# Altium footprint library regulatory.PcbLib: 2 footprints
Each footprint in its own frame and in the unit in brackets; x right, y up, seen from the top. Pads: shape width x height; smd on the part's side, far side on the other; paste and mask are expansions set on the pad; w line width, h text height; cw(c..) or ccw(c..) is an arc to the next point about the centre after c.
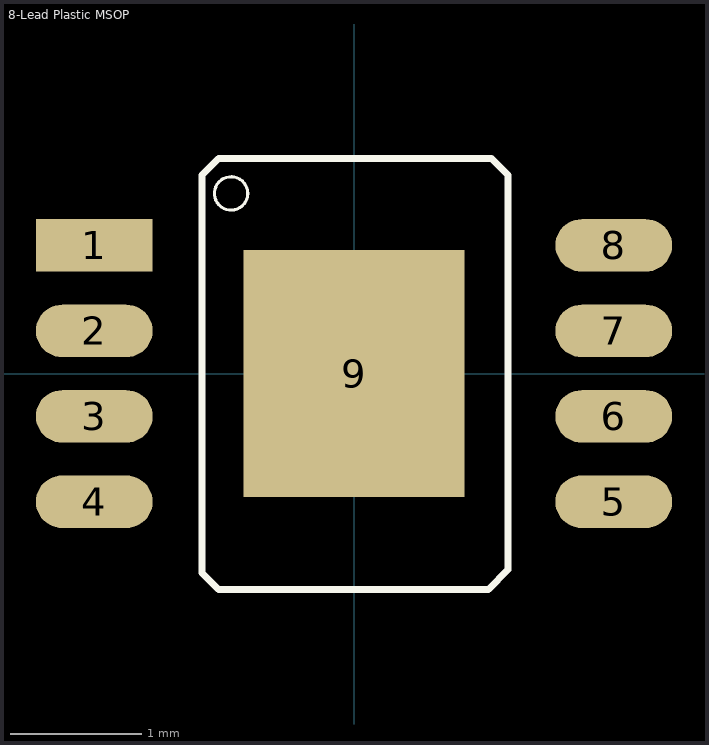
[diagram p0: the footprints below, top view; thin cyan lines are the x and y axes]

## 8-Lead Plastic MSOP [mm]
pads (9):
  rect 0.889x0.4 smd: 1(-1.975,0.975)
  oval 0.889x0.4 smd: 2(-1.975,0.325) 3(-1.975,-0.325) 4(-1.975,-0.975) 5(1.975,-0.975) 6(1.975,-0.325) 7(1.975,0.325) 8(1.975,0.975)
  rect 1.68x1.88 smd: 9(0,0)
Top Overlay:
  circle w0.024: c-0.935,1.37 r0.127
  lines w0.052: -1.156,-1.515 -1.029,-1.642 1.021,-1.642 1.172,-1.491 1.172,-0.741 1.172,0.759 1.172,1.509 1.045,1.636 -1.029,1.636 -1.156,1.509 -1.156,-1.491 -1.156,-1.515

## PCBComponent_1 [mm]